# Altium footprint library ACZ11BR1E15KQA112C.PcbLib: 1 footprints
Each footprint in its own frame and in the unit in brackets; x right, y up, seen from the top. Pads: shape width x height; smd on the part's side, far side on the other; paste and mask are expansions set on the pad; w line width, h text height; cw(c..) or ccw(c..) is an arc to the next point about the centre after c.
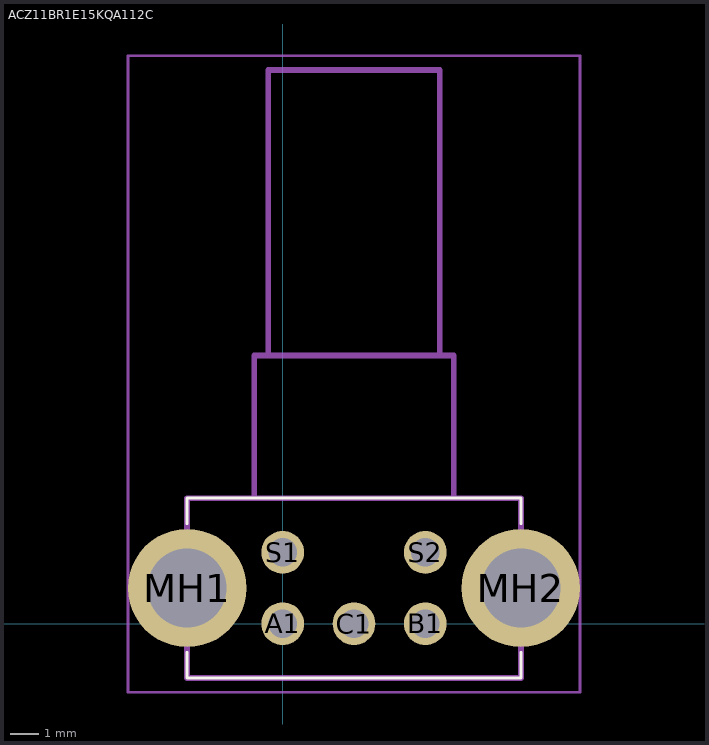
[diagram p0: the footprint, top view; thin cyan lines are the x and y axes]

## ACZ11BR1E15KQA112C [mm]
pads (7):
  round 1.5 hole 1: A1(0,0) B1(5,0) C1(2.5,0) S1(0,2.5) S2(5,2.5)
  round 4.149 hole 2.766: MH1(-3.35,1.25) MH2(8.35,1.25)
Top Overlay:
  lines w0.1: -3.35,-1 -3.35,-1.9 8.35,-1.9 8.35,-1 ; -3.35,3.5 -3.35,4.4 8.35,4.4 8.35,3.5
Mechanical 15:
  lines w0.2: -3.35,-1.9 8.35,-1.9 8.35,4.4 -3.35,4.4 -3.35,-1.9 ; -1,4.4 6,4.4 6,9.4 -1,9.4 -1,4.4 ; -0.5,9.4 5.5,9.4 5.5,19.4 -0.5,19.4 -0.5,9.4
Mechanical 20:
  lines w0.1: -5.425,-2.4 10.425,-2.4 10.425,19.9 -5.425,19.9 -5.425,-2.4